# Altium footprint library pedals-transistors.PCBLIB: 13 footprints
Each footprint in its own frame and in the unit in brackets; x right, y up, seen from the top. Pads: shape width x height; smd on the part's side, far side on the other; paste and mask are expansions set on the pad; w line width, h text height; cw(c..) or ccw(c..) is an arc to the next point about the centre after c.
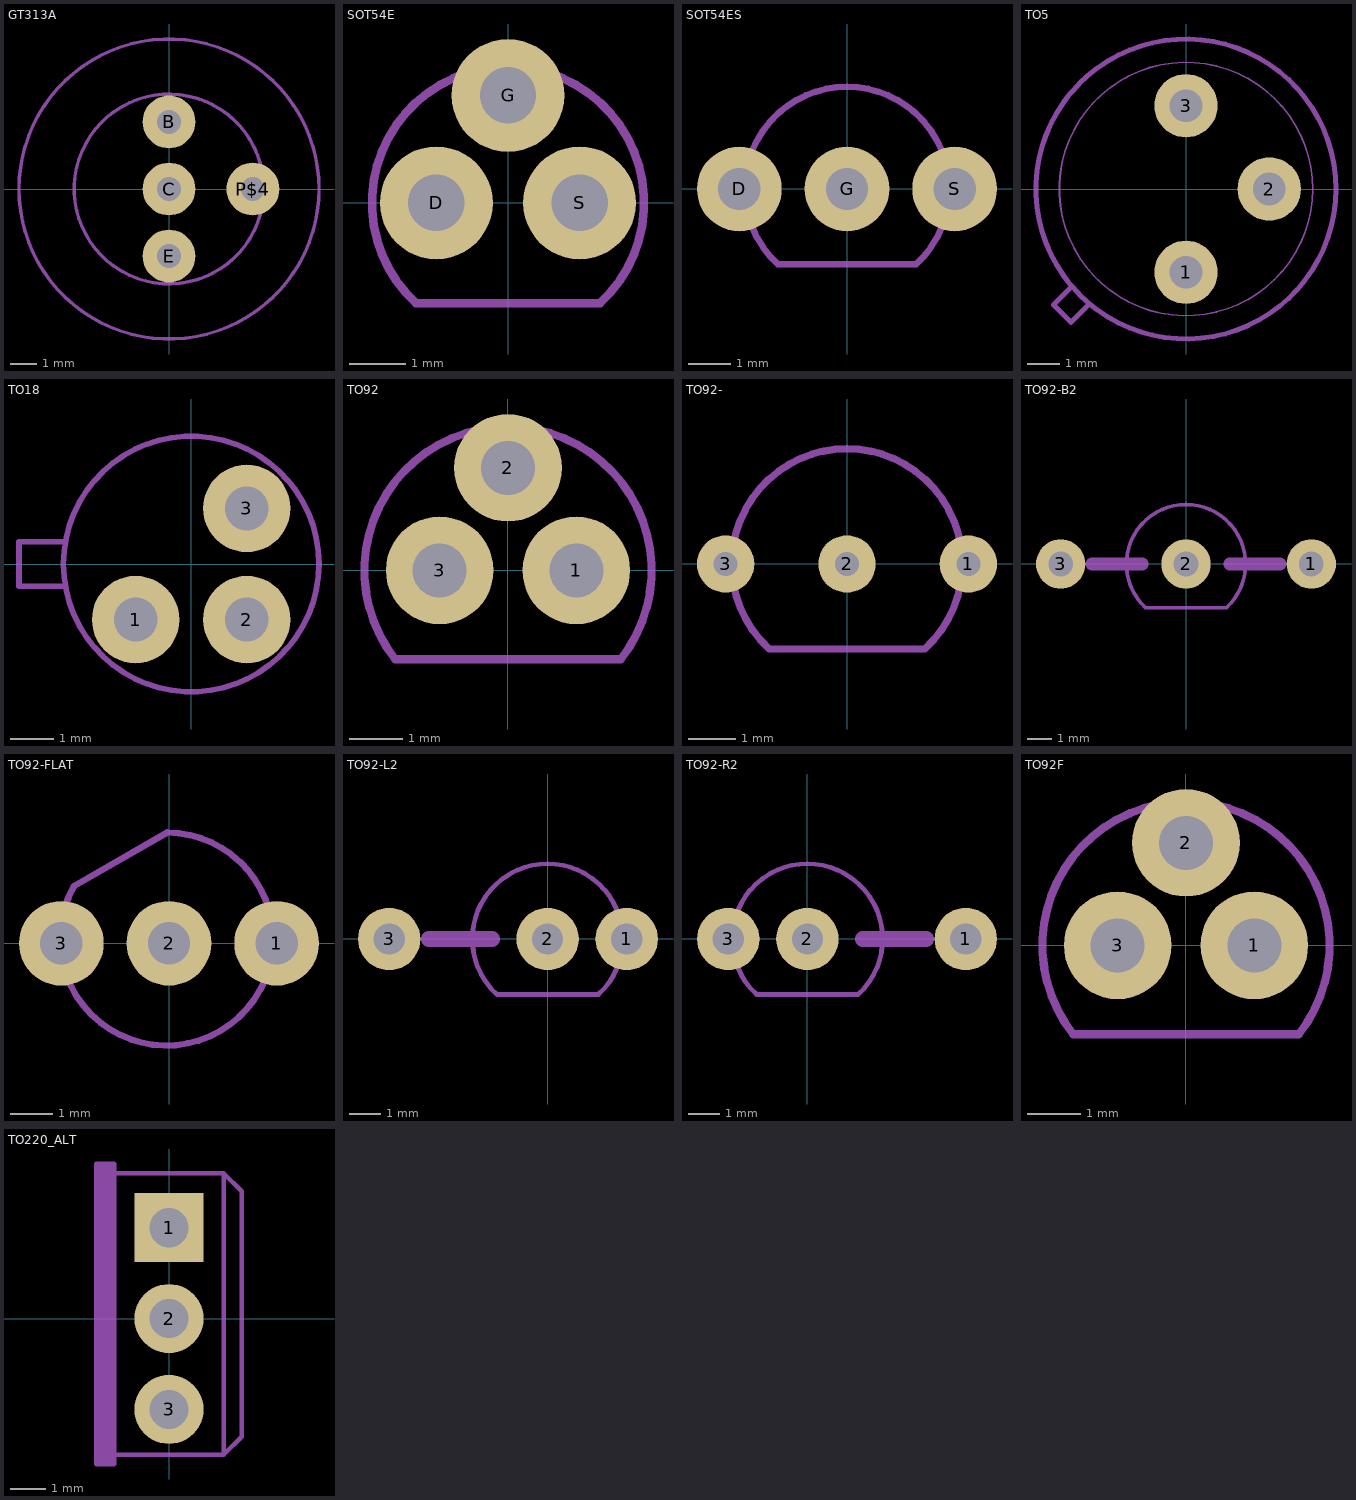
[diagram p0: the footprints below, top view; thin cyan lines are the x and y axes]

## GT313A [mm]
pads (4):
  round 2 hole 0.9: B(0,2.54) C(0,0) E(0,-2.54) P$4(3.175,0)
Mechanical 2:
  circle w0.127: c0,0 r5.68
  circle w0.127: c0,0 r3.592

## SOT54E [mm]
pads (3):
  round 2 hole 1: D(-1.27,0) G(0,1.905) S(1.27,0)
Mechanical 2:
  lines w0.152: -0.969,2.21 ccw(c0,0) -1.631,-1.778 1.631,-1.778 ccw(c0,0) 0.969,2.21
Mechanical 18:
  lines w0.152: -0.969,2.21 cw(c0,0) 0.969,2.21

## SOT54ES [mm]
pads (3):
  round 2 hole 1: D(-2.54,0) G(0,0) S(2.54,0)
Mechanical 2:
  lines w0.152: -0.969,2.21 ccw(c0,0) -1.631,-1.778 1.631,-1.778 ccw(c0,0) 0.969,2.21
Mechanical 18:
  lines w0.152: -0.969,2.21 cw(c0,0) 0.969,2.21

## TO5 [mil]
pads (3):
  round 76 hole 39.37: 1(0,-100) 2(100,0) 3(0,100)
Mechanical 2:
  circle w6: c0,0 r180
  circle w2: c0,0 r152
  lines w6: -138,-118 -159,-139 -138,-160 -117,-139

## TO18 [mm]
pads (3):
  round 2 hole 1: 1(-1.27,-1.27) 2(1.27,-1.27) 3(1.27,1.27)
Mechanical 2:
  circle w0.127: c0,0 r2.921
  lines w0.127: -2.877,-0.508 -3.937,-0.508 -3.937,0.508 -2.877,0.508

## TO92 [mm]
pads (3):
  round 2 hole 1: 1(1.27,0) 2(0,1.905) 3(-1.27,0)
Mechanical 2:
  lines w0.152: -2.095,-1.651 2.095,-1.651 ccw(c0.001,0) 0.787,2.548 ; -2.094,-1.651 cw(c0,0) -0.786,2.548
Mechanical 18:
  lines w0.152: -0.786,2.548 cw(c0,0) 0.786,2.548

## TO92- [mm]
pads (3):
  round 1.2 hole 0.5: 1(2.54,0) 2(0,0) 3(-2.54,0)
Mechanical 2:
  lines w0.152: -1.631,-1.778 cw(c0,0) -0.969,2.21 cw(c0,0) 0.969,2.21 cw(c0,0) 1.631,-1.778 -1.631,-1.778

## TO92-B2 [mm]
pads (3):
  round 2 hole 1: 1(5.08,0) 2(0,0) 3(-5.08,0)
Mechanical 2:
  lines w0.152: -0.969,2.21 ccw(c0,0) -1.631,-1.778 1.631,-1.778 ccw(c0,0) 0.969,2.21
  lines w0.508: -3.81,0 -1.778,0 ; 0,0 0,0.254 ; 1.778,0 3.81,0
Mechanical 18:
  lines w0.152: -0.969,2.21 cw(c0,0) 0.969,2.21

## TO92-FLAT [mm]
pads (3):
  round 2 hole 1: 1(2.54,0) 2(0,0) 3(-2.54,0)
Mechanical 2:
  lines w0.152: -2.243,1.345 -0.043,2.615 cw(c-0.058,0.101) -2.243,1.345
Mechanical 18:
  lines w0.61: -2.667,0 -2.413,0 ; -0.127,0 0.127,0 ; 2.413,0 2.667,0

## TO92-L2 [mm]
pads (3):
  round 2 hole 1: 1(2.54,0) 2(0,0) 3(-5.08,0)
Mechanical 2:
  lines w0.152: -1.631,-1.778 cw(c0,0) -0.969,2.21 cw(c0,0) 0.969,2.21 cw(c0,0) 1.631,-1.778 -1.631,-1.778
  lines w0.508: -3.81,0 -1.778,0 ; 0,0 0,0.254 ; 1.778,0 2.54,0

## TO92-R2 [mm]
pads (3):
  round 2 hole 1: 1(5.08,0) 2(0,0) 3(-2.54,0)
Mechanical 2:
  lines w0.152: -1.631,-1.778 cw(c0,0) -0.969,2.21 cw(c0,0) 0.969,2.21 cw(c0,0) 1.631,-1.778 -1.631,-1.778
  lines w0.508: -2.54,0 -1.778,0 ; 0,0 0,0.254 ; 1.778,0 3.81,0

## TO92F [mm]
pads (3):
  round 2 hole 1: 1(1.27,0) 2(0,1.905) 3(-1.27,0)
Mechanical 2:
  lines w0.152: -2.095,-1.651 2.095,-1.651 ccw(c0.001,0) 0.787,2.548 ; -2.094,-1.651 cw(c0,0) -0.786,2.548
Mechanical 18:
  lines w0.152: -0.786,2.548 cw(c0,0) 0.786,2.548

## TO220_ALT [mil]
pads (3):
  rect 76x76 hole 43.31: 1(0,100)
  round 76 hole 43.31: 2(0,0) 3(0,-100)
Mechanical 2:
  rectangle: -80,-160 -60,170
  lines w5: -60,-150 -60,-160 -80,-160 -80,170 -60,170 -60,160 ; -60,-150 -60,160 ; -60,-150 60,-150 ; -60,160 60,160 ; 60,-150 80,-130 80,140 60,160 ; 60,-150 60,160